# EAGLE library part ADXRS613 (library ADXRS613)
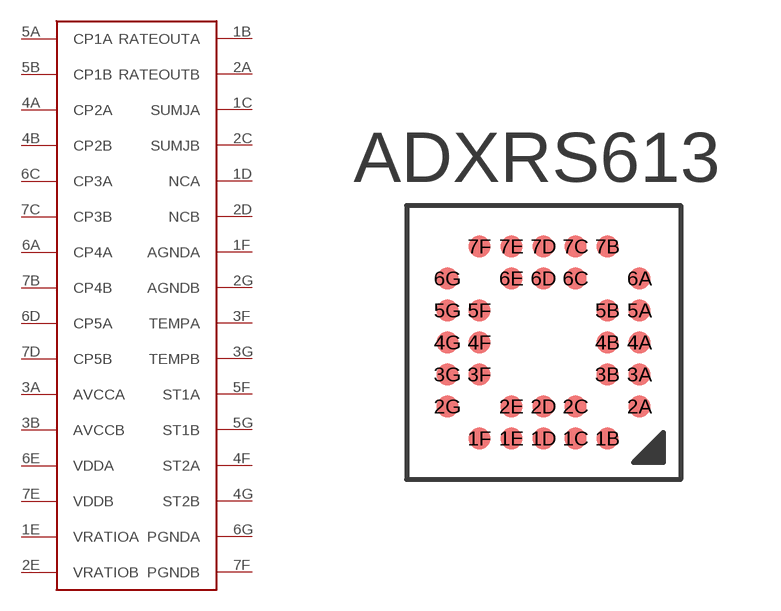
[diagram p0: symbol with the pads of ADXRS613; footprint ADXRS613]

Designator prefix -

## ADXRS613  [ADXRS613]
1B  RATEOUTA
1C  SUMJA
1D  NCA  nc
1E  VRATIOA
1F  AGNDA
2A  RATEOUTB
2C  SUMJB
2D  NCB  nc
2E  VRATIOB
2G  AGNDB
3A  AVCCA
3B  AVCCB
3F  TEMPA
3G  TEMPB
4A  CP2A
4B  CP2B
4F  ST2A
4G  ST2B
5A  CP1A
5B  CP1B
5F  ST1A
5G  ST1B
6A  CP4A
6C  CP3A
6D  CP5A
6E  VDDA
6G  PGNDA
7B  CP4B
7C  CP3B
7D  CP5B
7E  VDDB
7F  PGNDB

## Footprint ADXRS613 (pad centres in mm)
smd 0.55 x 0.55: 1B 1.6,-2.4; 1C 0.8,-2.4; 1D 0,-2.4; 1E -0.8,-2.4; 1F -1.6,-2.4; 2A 2.4,-1.6; 2C 0.8,-1.6; 2D 0,-1.6; 2E -0.8,-1.6; 2G -2.4,-1.6; 3A 2.4,-0.8; 3B 1.6,-0.8; 3F -1.6,-0.8; 3G -2.4,-0.8; 4A 2.4,0; 4B 1.6,0; 4F -1.6,0; 4G -2.4,0; 5A 2.4,0.8; 5B 1.6,0.8; 5F -1.6,0.8; 5G -2.4,0.8; 6A 2.4,1.6; 6C 0.8,1.6; 6D 0,1.6; 6E -0.8,1.6; 6G -2.4,1.6; 7B 1.6,2.4; 7C 0.8,2.4; 7D 0,2.4; 7E -0.8,2.4; 7F -1.6,2.4